# Altium footprint library MOTHERBOARD.PcbLib: 64 footprints (part 1 of 4)
Each footprint in its own frame and in the unit in brackets; x right, y up, seen from the top. Pads: shape width x height; smd on the part's side, far side on the other; paste and mask are expansions set on the pad; w line width, h text height; cw(c..) or ccw(c..) is an arc to the next point about the centre after c.
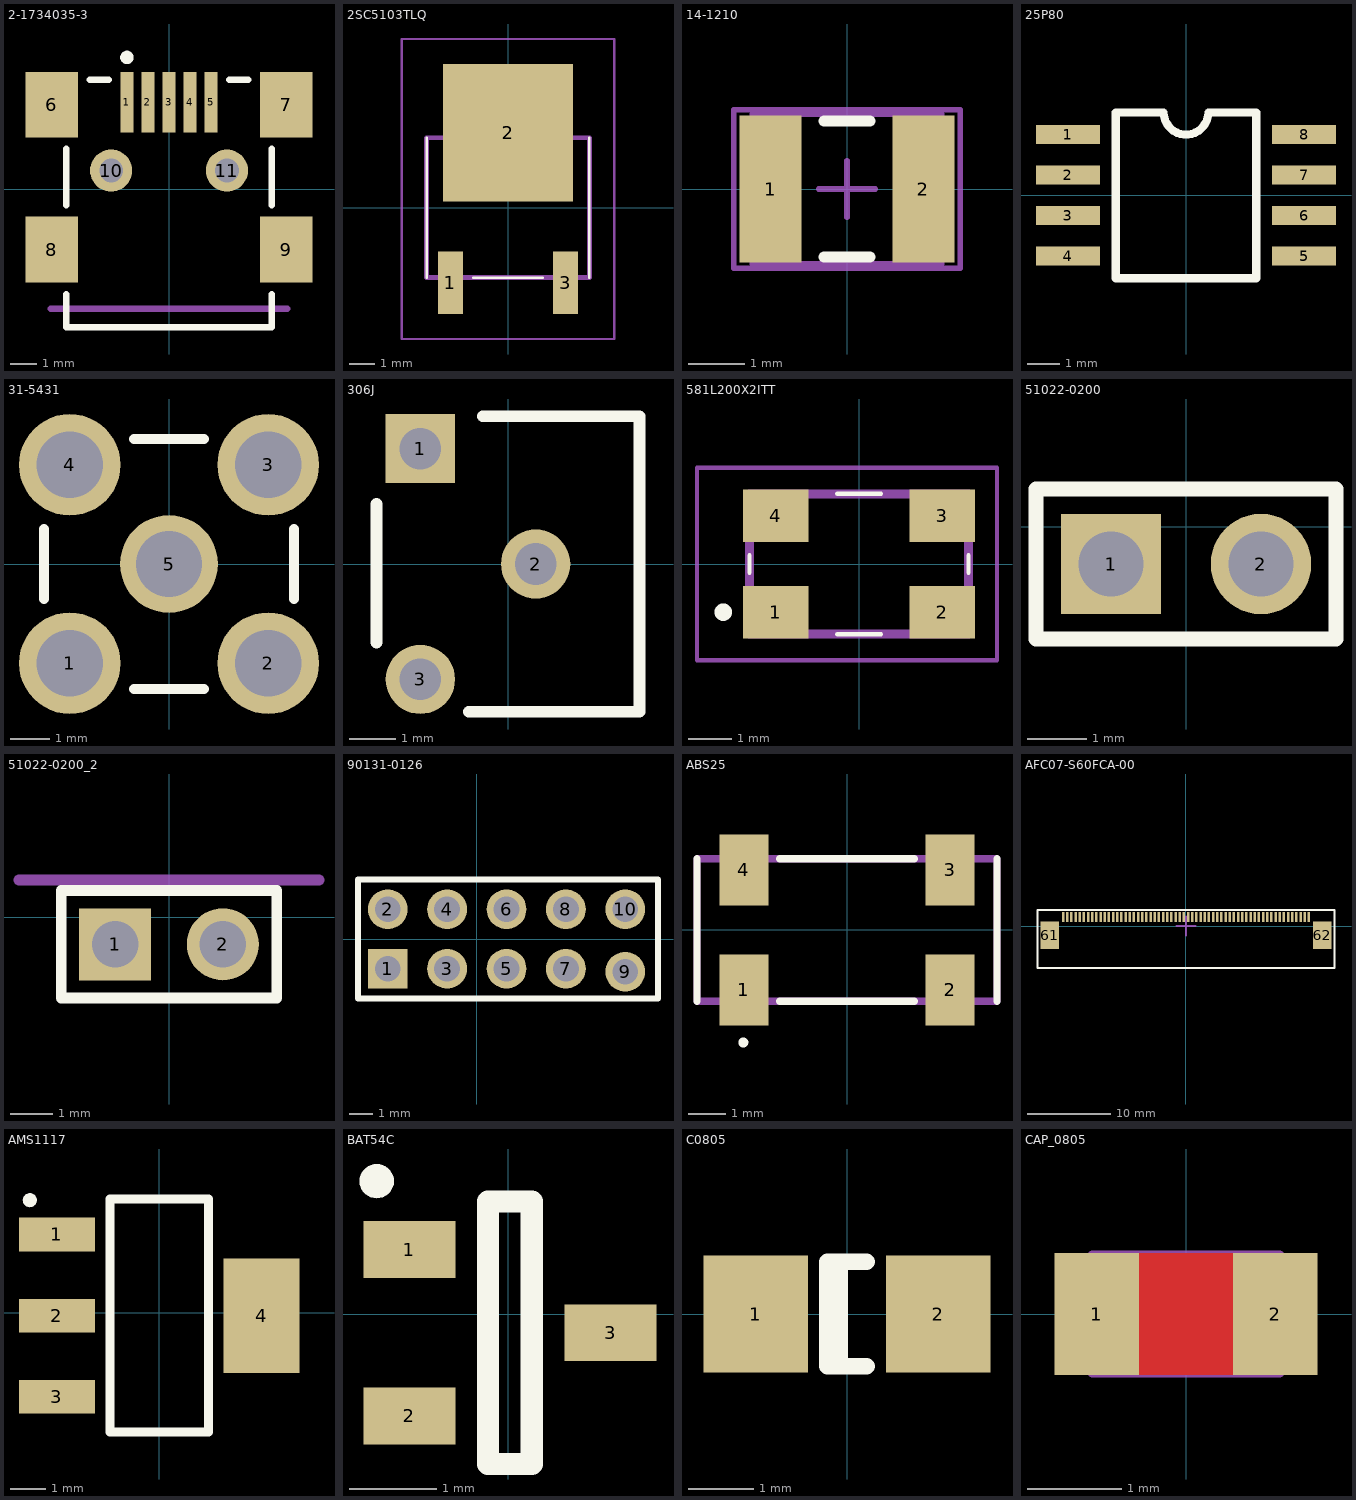
[diagram p0: the footprints below, top view; thin cyan lines are the x and y axes]

## 2-1734035-3 [mm]
pads (11):
  rect 0.5x2.3 smd: 1(-1.6,3.3) 2(-0.8,3.3) 3(0,3.3) 4(0.8,3.3) 5(1.6,3.3)
  rect 2x2.5 smd: 6(-4.45,3.2) 7(4.45,3.2) 8(-4.45,-2.3) 9(4.45,-2.3)
  round 1.6 hole 0.9: 10(-2.2,0.7) 11(2.201,0.7)
Top Overlay:
  region: -1.351,5 -1.354,5.044 -1.366,5.086 -1.384,5.125 -1.409,5.161 -1.44,5.192 -1.475,5.216 -1.515,5.235 -1.557,5.246 -1.6,5.25 -1.643,5.246 -1.686,5.235 -1.725,5.216 -1.761,5.192 -1.791,5.161 -1.816,5.125 -1.835,5.086 -1.846,5.044 -1.85,5 -1.846,4.957 -1.835,4.915 -1.816,4.875 -1.791,4.84 -1.761,4.809 -1.725,4.784 -1.686,4.765 -1.643,4.754 -1.6,4.75 -1.557,4.754 -1.515,4.765 -1.475,4.784 -1.44,4.809 -1.409,4.84 -1.384,4.875 -1.366,4.915 -1.354,4.957
  lines w0.254: -3.9,-4 -3.9,-5.25 3.9,-5.25 3.9,-4 ; -3.9,-0.62 -3.9,1.52 ; -3,4.15 -2.3,4.15 ; 2.3,4.15 3,4.15 ; 3.9,-0.62 3.9,1.52
Mechanical 1:
  lines w0.254: -4.5,-4.55 4.5,-4.55
  text "BOARD" at -2.437,-4.47 h1.52
  text "EDGE" at 0.493,-4.48 h1.52

## 2SC5103TLQ [mm]
pads (3):
  rect 1x2.5 smd: 1(-2.3,-3) 3(2.3,-3)
  rect 5.2x5.5 smd: 2(0,3)
Top Overlay:
  lines w0.1: -3.25,-2.8 -3.25,2.8 ; -1.4,-2.8 1.4,-2.8 ; 3.25,-2.8 3.25,2.8
Mechanical 13:
  lines w0.2: -3.25,-2.8 -3.25,2.8 3.25,2.8 3.25,-2.8 -3.25,-2.8
Mechanical 15:
  lines w0.1: -4.25,-5.25 -4.25,6.75 4.25,6.75 4.25,-5.25 -4.25,-5.25
3D body "2SC5103TLP.stp": height 2.6, standoff 0, extent -3.25,-4.15 3.25,5.23

## 14-1210 [mm] "Chip Resistor, Body 3.2x2.5mm, IPC High Density"
height 0.9
pads (2):
  rect 1.1x2.6 smd: 1(-1.35,0) 2(1.35,0)
Top Overlay:
  lines w0.2: -0.4,-1.2 0.4,-1.2 ; -0.4,1.2 0.4,1.2
Mechanical 13:
  lines w0.1: -1.675,-1.32 1.675,-1.32 1.675,1.32 -1.675,1.32 -1.675,-1.32
Mechanical 15:
  lines w0.1: -0.5,0 0.5,0 ; 0,-0.5 0,0.5 ; -2,-1.4 2,-1.4 2,1.4 -2,1.4 -2,-1.4
3D body: height 0.9, standoff 0, extent -1.675,-1.32 1.675,1.32

## 25P80 [mm]
pads (8):
  rect 2x0.6 smd: 1(-3.7,1.905) 2(-3.7,0.635) 3(-3.7,-0.635) 4(-3.7,-1.905) 5(3.7,-1.905) 6(3.7,-0.635) 7(3.7,0.635) 8(3.7,1.905)
Top Overlay:
  lines w0.254: -0.7,2.6 -2.2,2.6 -2.2,-2.6 2.2,-2.6 2.2,2.6 0.7,2.6 ; -0.7,2.6 ccw(c0,2.6) 0.7,2.6
3D body "SO8W_5P49X5P49_MRN.step": height 1.7, standoff 0, extent -4.051,-2.642 4.051,2.642

## 31-5431 [mm]
pads (5):
  round 2.6 hole 1.7: 1(-2.54,-2.54) 2(2.54,-2.54) 3(2.54,2.54) 4(-2.54,2.54)
  round 2.5 hole 1.7: 5(0,0)
Top Overlay:
  lines w0.254: -3.199,-0.9 -3.199,0.9 ; -0.9,-3.199 0.9,-3.199 ; -0.9,3.199 0.9,3.199 ; 3.199,-0.9 3.199,0.9
3D body "Molex - 73391-0060.STEP": height 9, standoff -3.55, extent -3.04,-3.04 3.04,3.04

## 306J [mm]
pads (3):
  rect 1.5x1.5 hole 0.9: 1(-1.9,2.5)
  round 1.5 hole 0.9: 2(0.6,0) 3(-1.9,-2.5)
Top Overlay:
  lines w0.254: -2.85,-1.7 -2.85,0 -2.85,1.3 ; -0.85,-3.2 2.85,-3.2 2.85,3.2 -0.55,3.2

## 581L200X2ITT [mm]
pads (4):
  rect 1.5x1.2 smd: 1(-1.9,-1.1) 2(1.9,-1.1) 3(1.9,1.1) 4(-1.9,1.1)
Top Overlay:
  lines w0.1: -2.5,-0.2 -2.5,0.2 ; -0.5,-1.6 0.5,-1.6 ; -0.5,1.6 0.5,1.6 ; 2.5,-0.2 2.5,0.2
  lines w0.2: -3.1,-1.2 ccw(c-3.1,-1.1) -3.1,-1 ccw(c-3.1,-1.1) -3.1,-1.2
Mechanical 13:
  lines w0.2: -2.5,-1.6 -2.5,1.6 2.5,1.6 2.5,-1.6 -2.5,-1.6
Mechanical 15:
  lines w0.1: -3.7,-2.2 -3.7,2.2 3.15,2.2 3.15,-2.2 -3.7,-2.2
3D body "581L200X2ITT.stp": height 1.75, standoff 0, extent -2.53,-1.6 2.53,1.6

## 51022-0200 [mm]
pads (2):
  rect 1.7x1.7 hole 1.1: 1(-1.27,-0.635)
  round 1.7 hole 1.1: 2(1.27,-0.635)
Top Overlay:
  lines w0.254: -2.54,-1.905 2.54,-1.905 2.54,0.635 -2.54,0.635 -2.54,-1.905
3D body "Pin Header 1x2 TH Pitch 2.54mm.stp": height 9.5, standoff -3.2, extent -2.54,-1.905 2.54,0.635

## 51022-0200_2 [mm]
pads (2):
  rect 1.7x1.7 hole 1.1: 1(-1.27,-0.635)
  round 1.7 hole 1.1: 2(1.27,-0.635)
Top Overlay:
  lines w0.254: -2.54,-1.905 -2.54,0.635 2.54,0.635 2.54,-1.905 -2.54,-1.905
Mechanical 1:
  lines w0.254: -3.54,0.885 3.54,0.885
  text "BOARD EDGE" at -2.182,1.001 h1.52

## 90131-0126 [mm]
pads (10):
  rect 1.7x1.7 hole 1.1: 1(-3.81,-1.27)
  round 1.7 hole 1.1: 2(-3.81,1.27) 3(-1.27,-1.27) 4(-1.27,1.27) 5(1.27,-1.27) 6(1.27,1.27) 7(3.81,-1.27) 8(3.81,1.27) 9(6.35,-1.397) 10(6.35,1.27)
Top Overlay:
  lines w0.254: -5.08,-2.54 -5.08,2.54 7.747,2.54 7.747,-2.54 -5.08,-2.54

## ABS25 [mm]
pads (4):
  rect 1.3x1.9 smd: 1(-2.75,-1.6) 2(2.75,-1.6) 3(2.75,1.6) 4(-2.75,1.6)
Top Overlay:
  circle w0.2: c-2.766,-3.001 r0.033
  lines w0.2: -4,-1.9 -4,1.9 ; -1.8,-1.9 1.8,-1.9 ; -1.8,1.9 1.8,1.9 ; 4,-1.9 4,1.9
Mechanical 13:
  lines w0.2: -4,-1.9 -4,1.9 4,1.9 4,-1.9 -4,-1.9

## AFC07-S60FCA-00 [mm]
pads (62):
  rect 0.3x1.2 smd: 1(-14.75,1.088) 2(-14.25,1.088) 3(-13.75,1.088) 4(-13.25,1.088) 5(-12.75,1.088) 6(-12.25,1.088) 7(-11.75,1.088) 8(-11.25,1.088) 9(-10.75,1.088) 10(-10.25,1.088) 11(-9.75,1.088) 12(-9.25,1.088) 13(-8.75,1.088) 14(-8.25,1.088) 15(-7.75,1.088) 16(-7.25,1.088) 17(-6.75,1.088) 18(-6.25,1.088) 19(-5.75,1.088) 20(-5.25,1.088) 21(-4.75,1.088) 22(-4.25,1.088) 23(-3.75,1.088) 24(-3.25,1.088) 25(-2.75,1.088) 26(-2.25,1.088) 27(-1.75,1.088) 28(-1.25,1.088) 29(-0.75,1.088) 30(-0.25,1.088) 31(0.25,1.088) 32(0.75,1.088) 33(1.25,1.088) 34(1.75,1.088) 35(2.25,1.088) 36(2.75,1.088) 37(3.25,1.088) 38(3.75,1.088) 39(4.25,1.088) 40(4.75,1.088) 41(5.25,1.088) 42(5.75,1.088) 43(6.25,1.088) 44(6.75,1.088) 45(7.25,1.088) 46(7.75,1.088) 47(8.25,1.088) 48(8.75,1.088) 49(9.25,1.088) 50(9.75,1.088) 51(10.25,1.088) 52(10.75,1.088) 53(11.25,1.088) 54(11.75,1.088) 55(12.25,1.088) 56(12.75,1.088) 57(13.25,1.088) 58(13.75,1.088) 59(14.25,1.088) 60(14.75,1.088)
  rect 2.2x3.3 smd: 61(-16.35,-1.087) 62(16.35,-1.087)
Top Overlay:
  lines w0.254: -17.8,-5.05 17.8,-5.05 17.8,1.95 -17.8,1.95 -17.8,-5.05
Mechanical 15:
  lines w0.254: -1.143,0 0,0 ; 0,-1.143 0,0 ; 0,1.143 0,0 ; 1.143,0 0,0
3D body: height 3, standoff 0, extent -17.145,-4.826 17.145,0.889

## AMS1117 [mm]
pads (4):
  rect 2.15x0.95 smd: 1(-2.9,2.215) 2(-2.9,-0.085) 3(-2.9,-2.385)
  rect 2.15x3.25 smd: 4(2.9,-0.085)
Top Overlay:
  region: -3.471,3.189 -3.474,3.223 -3.483,3.256 -3.497,3.287 -3.517,3.315 -3.541,3.339 -3.569,3.358 -3.6,3.373 -3.633,3.381 -3.667,3.384 -3.701,3.381 -3.734,3.373 -3.765,3.358 -3.793,3.339 -3.817,3.315 -3.837,3.287 -3.851,3.256 -3.86,3.223 -3.863,3.189 -3.86,3.155 -3.851,3.122 -3.837,3.091 -3.817,3.063 -3.793,3.039 -3.765,3.019 -3.734,3.005 -3.701,2.996 -3.667,2.993 -3.633,2.996 -3.6,3.005 -3.569,3.019 -3.541,3.039 -3.517,3.063 -3.497,3.091 -3.483,3.122 -3.474,3.155
  lines w0.254: -1.4,-3.384 1.4,-3.384 1.4,3.215 -1.4,3.215 -1.4,-3.384

## BAT54C [mm]
pads (3):
  rect 1.05x0.65 smd: 1(-1.128,0.735) 2(-1.128,-1.165) 3(1.172,-0.215)
Top Overlay:
  region: -1.305,1.519 -1.308,1.553 -1.317,1.586 -1.332,1.617 -1.351,1.645 -1.375,1.669 -1.403,1.688 -1.434,1.703 -1.467,1.712 -1.501,1.715 -1.535,1.712 -1.568,1.703 -1.599,1.688 -1.627,1.669 -1.651,1.645 -1.671,1.617 -1.685,1.586 -1.694,1.553 -1.697,1.519 -1.694,1.485 -1.685,1.452 -1.671,1.421 -1.651,1.393 -1.627,1.369 -1.599,1.349 -1.568,1.335 -1.535,1.326 -1.501,1.323 -1.467,1.326 -1.434,1.335 -1.403,1.349 -1.375,1.369 -1.351,1.393 -1.332,1.421 -1.317,1.452 -1.308,1.485
  lines w0.254: -0.228,-1.715 -0.228,1.285 0.272,1.285 0.272,-1.715 -0.228,-1.715

## C0805 [mm]
pads (2):
  rect 1.6x1.8 smd: 1(-1.4,0) 2(1.4,0)
Top Overlay:
  lines w0.254: -0.11,-0.799 -0.11,0.799 ; 0.299,-0.799 -0.299,-0.799 -0.299,0.799 0.299,0.799
3D body "SW3dPS-0805 SMD Capacitor.STEP": height 0.78, standoff 0, extent -1,-0.625 1,0.625

## CAP_0805 [mm] "Surface-Mount Multilayer Chip Capacitor, Body 2 x 1.25 mm (L x W)"
height 1.4
pads (2):
  rect 0.9x1.3 smd: 1(-0.95,0) 2(0.95,0)
Top Layer:
  pour cut-out: -0.5,0.65 0.5,0.65 0.5,-0.65 -0.5,-0.65
Mechanical 13:
  lines w0.1: -1,-0.625 -1,0.625 1,0.625 1,-0.625 -1,-0.625
3D body "0805.step": height 0.78, standoff 0, extent -1,-0.625 1,0.625